# EAGLE library part HIF3BA-20PA-2.54DS (library my_connector)
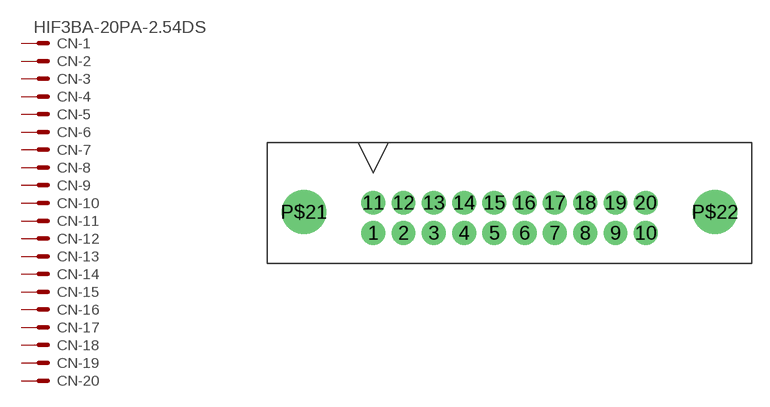
[diagram p3: symbol with the pads of HIF3BA-20PA-2.54DS; footprint HIF3BA-20PA-2.54DS]

Designator prefix CN; gates -1=MV -2=M -3=M -4=M -5=M -6=M -7=M -8=M -9=M -10=M -11=M -12=M -13=M -14=M -15=M -16=M -17=M -18=M -19=M -20=M

## HIF3BA-20PA-2.54DS  [HIF3BA-20PA-2.54DS]
1  -1:S  pas
2  -2:S  pas
3  -3:S  pas
4  -4:S  pas
5  -5:S  pas
6  -6:S  pas
7  -7:S  pas
8  -8:S  pas
9  -9:S  pas
10  -10:S  pas
11  -11:S  pas
12  -12:S  pas
13  -13:S  pas
14  -14:S  pas
15  -15:S  pas
16  -16:S  pas
17  -17:S  pas
18  -18:S  pas
19  -19:S  pas
20  -20:S  pas

## Footprint HIF3BA-20PA-2.54DS (pad centres in mm)
drill 0.8 pad 2: 1 0,0.04; 2 2.54,0.04; 3 5.08,0.04; 4 7.62,0.04; 5 10.16,0.04; 6 12.7,0.04; 7 15.24,0.04; 8 17.78,0.04; 9 20.32,0.04; 10 22.86,0.04; 11 0,2.58; 12 2.54,2.58; 13 5.08,2.58; 14 7.62,2.58; 15 10.16,2.58; 16 12.7,2.58; 17 15.24,2.58; 18 17.78,2.58; 19 20.32,2.58; 20 22.86,2.58
drill 2.7: P$21 -5.82,1.8; P$22 28.68,1.8